# Altium schematic symbol library MAX2671.Schlib: 1 symbol
Pins are listed as number, name and electrical type; pins without a type are passive.

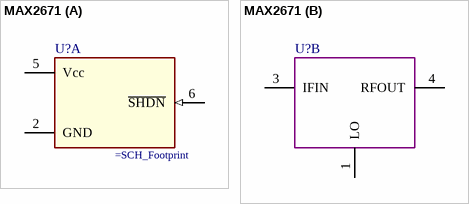
[diagram p0: symbol MAX2671]

## MAX2671
designator U?  (value not drawn)
400MHz to 2.5GHz Upconverter Mixer
part A pins: 2 GND (power), 5 Vcc (power), 6 ~{SHDN} (in)
part B pins: 1 LO, 3 IFIN, 4 RFOUT